# Altium schematic symbol library Connectors.SchLib: 4 symbols
Pins are listed as number, name and electrical type; pins without a type are passive.

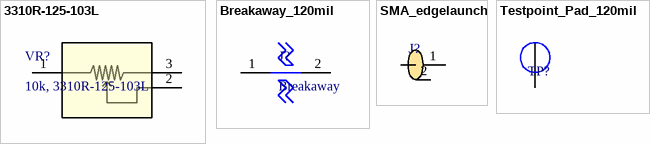
[diagram p0: symbols 3310R-125-103L to Testpoint_Pad_120mil]

## 3310R-125-103L
designator VR?, comment 10k, 3310R-125-103L
POT 10K OHM 1/4W PLASTIC LINEAR; Mfr_Name: Bourns Electronics; Copyright: Copyright (C) 2022 Ultra Librarian. All rights reserved.; Manufacturer_Part_Number: 3310R-125-103L; Digi-Key_Part_Number_1: 3310R-125-103L-ND; RefDes: RefDes; Type: DEV; Supplier 1: Digi-Key; Supplier Part Number 1: 3310R-125-103L-ND
footprint 3310R-125-103L
pins: 1, 2, 3

## Breakaway_120mil
designator J?, comment Breakaway
footprint Breakaway_120mil
pins: 1, 2

## SMA_edgelaunch
designator J?  (value not drawn)
Generic 50 ohm SMA edge launch connector
footprint SMA_edgelaunch
pins: 1, 2 SH

## Testpoint_Pad_120mil
designator TP?  (value not drawn)
Testpoint pad, top copper, 120mil diameter
footprint TP_PAD_120mil
pins: 1